# Altium footprint library 74439358022.PcbLib: 1 footprints
Each footprint in its own frame and in the unit in brackets; x right, y up, seen from the top. Pads: shape width x height; smd on the part's side, far side on the other; paste and mask are expansions set on the pad; w line width, h text height; cw(c..) or ccw(c..) is an arc to the next point about the centre after c.
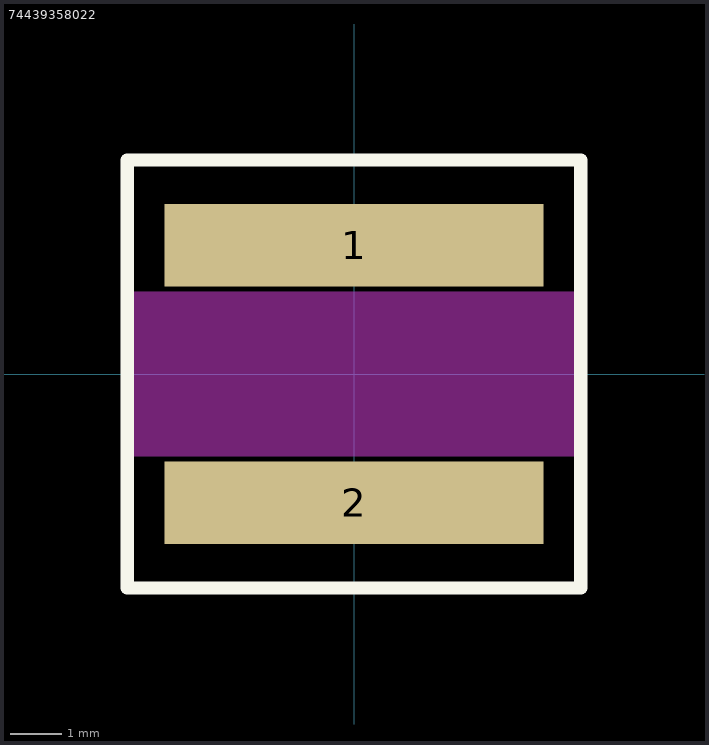
[diagram p0: the footprint, top view; thin cyan lines are the x and y axes]

## 74439358022 [mm]
height 8
pads (2):
  rect 7.35x1.6 smd: 1(0,2.5) 2(0,-2.5)
Top Layer keep-out:
  rectangle: -4.4,-1.6 4.4,1.6
Top Overlay:
  lines w0.254: -4.4,-4.15 4.4,-4.15 4.4,4.15 -4.4,4.15 -4.4,-4.15
3D body "74439358022.STEP": height 7.8, standoff 0, extent -4.4,-4.15 4.4,4.15